# EAGLE library part SVGAJACK (library WakamelibGOOD)
SuperVGA connector for main display
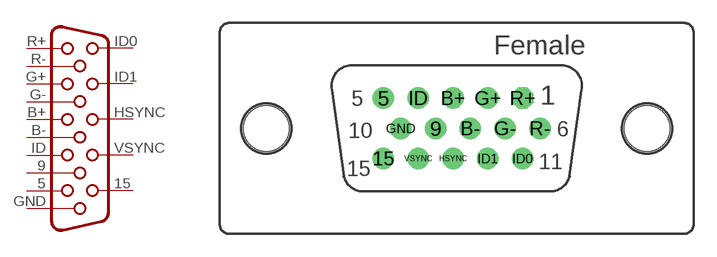
[diagram p9: symbol with the pads of HDF15V; footprint HDF15V]

Designator prefix -

## SVGAJACK  [HDF15V]
5  5  pas
9  9  pas
15  15  pas
B+  3  pas
B-  8  pas
G+  2  pas
G-  7  pas
GND  10  pas
HSYNC  13  pas
ID  4  pas
ID0  11  pas
ID1  12  pas
R+  1  pas
R-  6  pas
VSYNC  14  pas

## Footprint HDF15V (pad centres in mm)
SUB-D
drill 0.9: 5 -4.815,1.98; 9 -1.386,0; 15 -4.815,-1.98; B+ -0.243,1.98; B- 0.9,0; G+ 2.043,1.98; G- 3.186,0; GND -3.672,0; HSYNC -0.243,-1.98; ID -2.529,1.98; ID0 4.329,-1.98; ID1 2.043,-1.98; R- 5.472,0; VSYNC -2.529,-1.98
drill 0.9 octagon: R+ 4.329,1.98
hole 3 at -12.5,0
hole 3 at 12.5,0